# EAGLE library part LT4364?-* (library ic-LT)
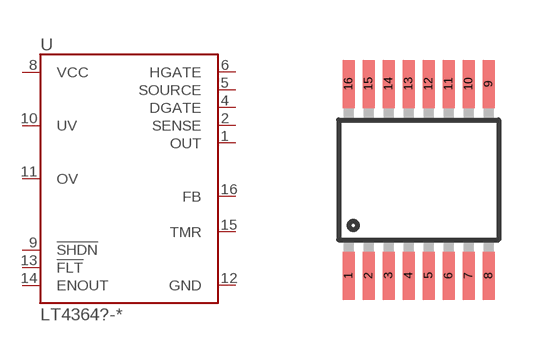
[diagram p9: symbol with the pads of MSOP16; footprint MSOP16]

Designator prefix U

## LT4364MS-1, LT4364MS-2  [MSOP16]
1  OUT
2  SENSE
4  DGATE
5  SOURCE
6  HGATE
8  VCC
9  !SHDN
10  UV
11  OV
12  GND
13  !FLT
14  ENOUT
15  TMR
16  FB

## Footprint MSOP16 (pad centres in mm)
smd 0.3 x 1.2: 1 -1.75,-2.4; 2 -1.25,-2.4; 3 -0.75,-2.4; 4 -0.25,-2.4; 5 0.25,-2.4; 6 0.75,-2.4; 7 1.25,-2.4; 8 1.75,-2.4; 9 1.75,2.4; 10 1.25,2.4; 11 0.75,2.4; 12 0.25,2.4; 13 -0.25,2.4; 14 -0.75,2.4; 15 -1.25,2.4; 16 -1.75,2.4